# Altium integrated library PCB_CASE01.IntLib: 28 symbols
Pins are listed as number, name and electrical type; pins without a type are passive.

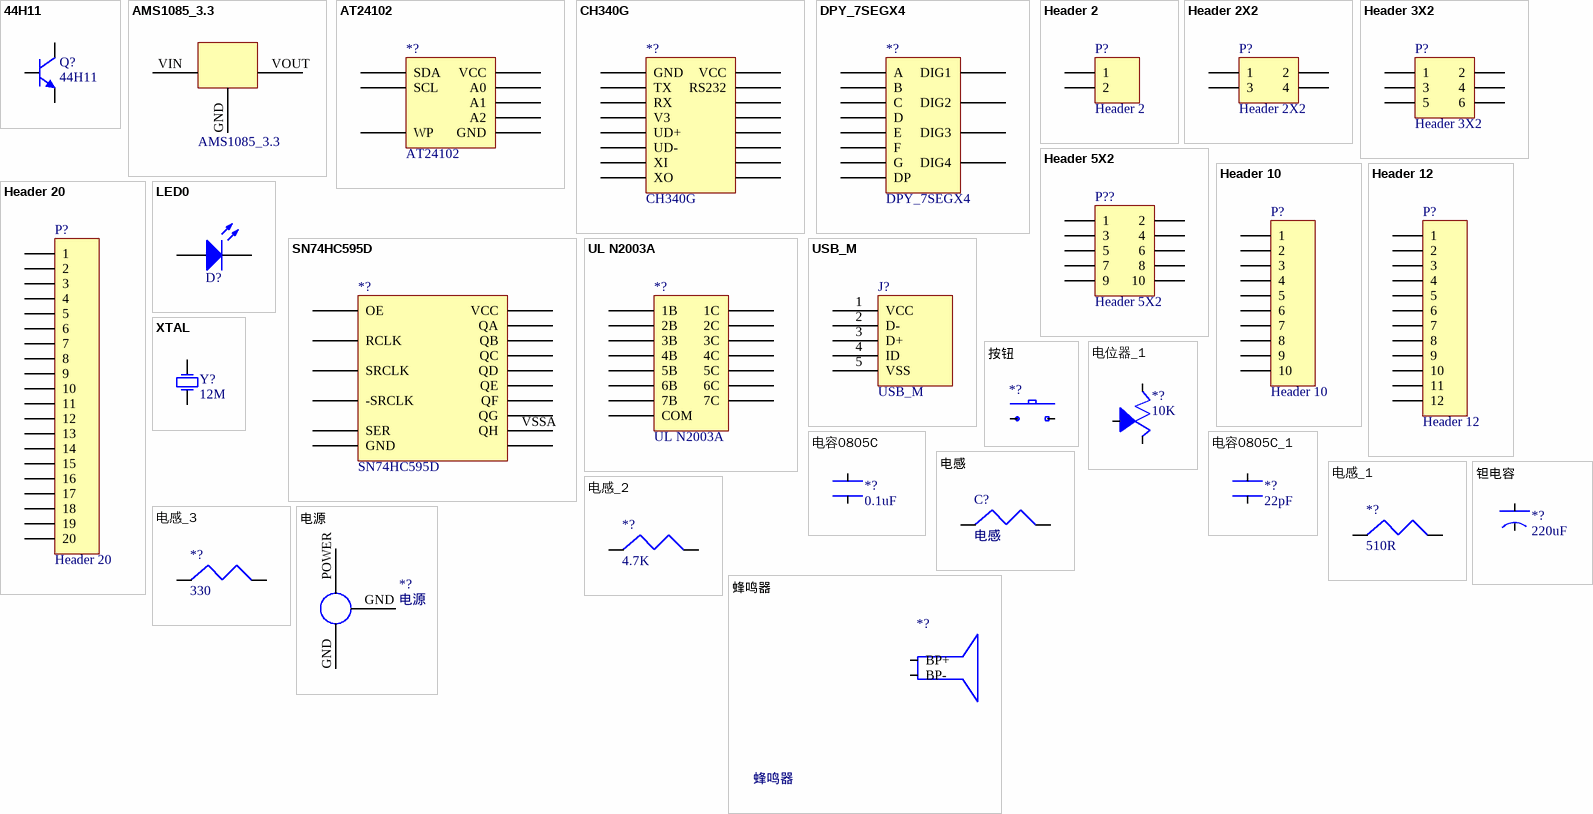
[diagram p0: symbols 44H11 to 钽电容]

## 44H11
designator Q?
互补功率-NPN型; 版权归属: 源创客; 属性: 80V 8A 50W; BOM名称: 互补功率-NPN型; 学习资源: www.ooocke.com
footprint TO252 (252晶体管)
footprint TO251A (251，3脚晶体管)
footprint TO251B (251，3脚晶体管)
footprint 三极管_To-92
pins: 1 B, 2 C, 3 E

## AMS1085_3.3
designator *?
footprint AMS1117-3.3V-SOT-223 (SOT223, 4-Leads, Body 6.51x7.00mm (avg), Pitch 2.29mm, IPC Medium Density)
pins: GND VSSA, VIN VSSA, VOUT VSSA

## AT24102
designator *?
footprint AT24C02 (3*6.4*1.2mm 封装库来自淘宝卖家 ID：黄晶宝石)
pins: VSSA SDA, VSSA SCL, VSSA WP, VSSA VCC, VSSA A0, VSSA A1, VSSA A2, VSSA GND

## CH340G
designator *?
footprint CH340G
pins: VSSA GND, VSSA TX, VSSA RX, VSSA V3, VSSA UD+, VSSA UD-, VSSA XI, VSSA XO, VSSA VCC, VSSA RS232, VSSA, VSSA, VSSA, VSSA, VSSA, VSSA

## DPY_7SEGX4
designator *?
footprint 数码管_4P (30*14*7.2mm(长宽厚))
footprint 数码管_4P (30*14*7.2mm(长宽厚))
pins: VSSA A, VSSA B, VSSA C, VSSA D, VSSA E, VSSA F, VSSA G, VSSA DP, VSSA DIG1, VSSA DIG2, VSSA DIG3, VSSA DIG4

## Header 2
designator P?
Header, 2-Pin; LatestRevisionDate: 17-Jul-2002; LatestRevisionNote: Re-released for DXP Platform.; Publisher: Altium Limited
footprint HDR1X2 (Connector; Header; 2 Position)
signal-integrity model Connector
pins: 1, 2

## Header 2X2
designator P?
Header, 2-Pin, Dual row; LatestRevisionDate: 17-Jul-2002; LatestRevisionNote: Re-released for DXP Platform.; Publisher: Altium Limited
footprint HDR2X2 (Connector; Header; 2x2 Position)
signal-integrity model Connector
pins: 1, 2, 3, 4

## Header 3X2
designator P?
Header, 3-Pin, Dual row; LatestRevisionDate: 17-Jul-2002; LatestRevisionNote: Re-released for DXP Platform.; Publisher: Altium Limited
footprint HDR2X3 (Connector; Header; 3x2 Position)
signal-integrity model Connector
pins: 1, 2, 3, 4, 5, 6

## Header 5X2
designator P??
Header, 5-Pin, Dual row; LatestRevisionDate: 17-Jul-2002; LatestRevisionNote: Re-released for DXP Platform.; Publisher: Altium Limited
footprint HDR2X5 (Connector; Header; 5x2 Position)
signal-integrity model Connector
pins: 1, 2, 3, 4, 5, 6, 7, 8, 9, 10

## Header 10
designator P?
Header, 10-Pin; LatestRevisionDate: 17-Jul-2002; LatestRevisionNote: Re-released for DXP Platform.; Publisher: Altium Limited
footprint HDR1X10 (Connector; Header; 10 Position)
signal-integrity model Connector
pins: 1, 2, 3, 4, 5, 6, 7, 8, 9, 10

## Header 12
designator P?
Header, 12-Pin; LatestRevisionDate: 17-Jul-2002; LatestRevisionNote: Re-released for DXP Platform.; Publisher: Altium Limited
footprint HDR1X12 (Connector; Header; 12 Position)
signal-integrity model Connector
pins: 1, 2, 3, 4, 5, 6, 7, 8, 9, 10, 11, 12

## Header 20
designator P?
Header, 20-Pin; LatestRevisionDate: 17-Jul-2002; LatestRevisionNote: Re-released for DXP Platform.; Publisher: Altium Limited
footprint HDR1X20 (Connector; Header; 20 Position)
signal-integrity model Connector
pins: 1, 2, 3, 4, 5, 6, 7, 8, 9, 10, 11, 12, 13, 14, 15, 16, 17, 18, 19, 20

## LED0
designator D?  (value not drawn)
发光二极管; Published: 8-Jun-2000; LatestRevisionDate: 08-Jul-2005; LatestRevisionNote: Mech Layer 1 removed.; PackageReference: LED-0; Publisher: Altium Limited
footprint LED_A1 (直径3MM发?)
footprint LED_0805_Blue (贴片二极管（蓝色）)
footprint LED_A2 (直径3MM?)
footprint LED-3528 (贴片二极管)
footprint LED_0805_Green (绿色)
footprint LED_0805_Red (红色led)
footprint LED_0805_Yellow (黄色led)
pins: 1 A, 2 K

## SN74HC595D
designator *?
footprint 74HC595D (封装库来自淘宝卖家 ID：黄晶宝石)
pins: VSSA VCC, VSSA QA, VSSA QB, VSSA QC, VSSA QD, VSSA QE, VSSA QF, VSSA QG, VSSA QH, VSSA, VSSA OE, VSSA RCLK, VSSA SRCLK, VSSA -SRCLK, VSSA SER, VSSA GND

## UL N2003A
designator *?
footprint ULN2003A (封装库来自淘宝卖家 ID：黄晶宝石)
pins: VSSA 1B, VSSA 2B, VSSA 3B, VSSA 4B, VSSA 5B, VSSA 6B, VSSA 7B, VSSA COM, VSSA 1C, VSSA 2C, VSSA 3C, VSSA 4C, VSSA 5C, VSSA 6C, VSSA 7C

## USB_M
designator J?
MicroUSB接口
footprint USB_MICRO (USB方孔)
footprint USB
pins: 1 VCC, 2 D-, 3 D+, 4 ID, 5 VSS

## XTAL
designator Y?, comment 12M
晶振; Published: 8-Jun-2000; LatestRevisionDate: 17-Jul-2002; LatestRevisionNote: Re-released for DXP Platform.; PackageReference: R38; Publisher: Altium Limited
footprint X-HC49U (插件晶振)
footprint X-SM49
footprint XTAL-5032 (无源晶振5032)
footprint 5032 (无源晶振5032)
footprint 3215 (晶振)
pins: 1 OSC1, 2 OSC2

## 按钮
designator *?  (value not drawn)
footprint TSW DIP-12*12*9 (12*12*9mm)
footprint 按钮-12*12*9 (12*12*9mm)
footprint 按钮-6*6*4.3 (6*6*4.3mm)
pins: VSSA, VSSA

## 电位器_1
designator *?, comment 10K
footprint 3303W (3.5*3.1*1.5mm                          淘宝ID:黄晶宝石)
pins: VSSA, VSSA, VSSA

## 电容0805C
designator *?, comment 0.1uF
footprint C 0805_L (无极性贴片电容                                        淘宝ID:黄晶宝石)
footprint C 0805_L (无极性贴片电容                                        淘宝ID:黄晶宝石)
pins: VSSA, VSSA

## 电容0805C_1
designator *?, comment 22pF
footprint C 0805_L (无极性贴片电容                                        淘宝ID:黄晶宝石)
pins: VSSA, VSSA

## 电感
designator C?
footprint L 0805 (小功率贴片电感        淘宝ID:黄晶宝石)
pins: VSSA, VSSA

## 电感_1
designator *?, comment 510R
footprint L 0805 (小功率贴片电感        淘宝ID:黄晶宝石)
pins: VSSA, VSSA

## 电感_2
designator *?, comment 4.7K
footprint L 0805 (小功率贴片电感        淘宝ID:黄晶宝石)
pins: VSSA, VSSA

## 电感_3
designator *?, comment 330
footprint L 0805 (小功率贴片电感        淘宝ID:黄晶宝石)
pins: VSSA, VSSA

## 电源
designator *?
footprint DC-005 (5.5*2.1mm，DC30V,2.5A      淘宝ID:黄晶宝石)
footprint DC-005 (5.5*2.1mm，DC30V,2.5A      淘宝ID:黄晶宝石)
footprint DC-005 - duplicate (5.5*2.1mm，DC30V,2.5A      淘宝ID:黄晶宝石)
pins: GND VSSA, GND VSSA, POWER VSSA

## 蜂鸣器
designator *?
footprint 蜂鸣器侧装
footprint 蜂鸣器侧装
pins: VSSA BP+, VSSA BP-

## 钽电容
designator *?, comment 220uF
footprint CAP 2.5*6.3*11.2 - BK (脚距2.5mm直径6.3mm高度11.2mm             淘宝ID:黄晶宝石)
footprint CAP 2.5*6.3*11.2 - BK (脚距2.5mm直径6.3mm高度11.2mm             淘宝ID:黄晶宝石)
pins: VSSA, VSSA